# Altium footprint library TerminalBlock_Degson.PcbLib: 21 footprints (part 1 of 2)
Each footprint in its own frame and in the unit in brackets; x right, y up, seen from the top. Pads: shape width x height; smd on the part's side, far side on the other; paste and mask are expansions set on the pad; w line width, h text height; cw(c..) or ccw(c..) is an arc to the next point about the centre after c.
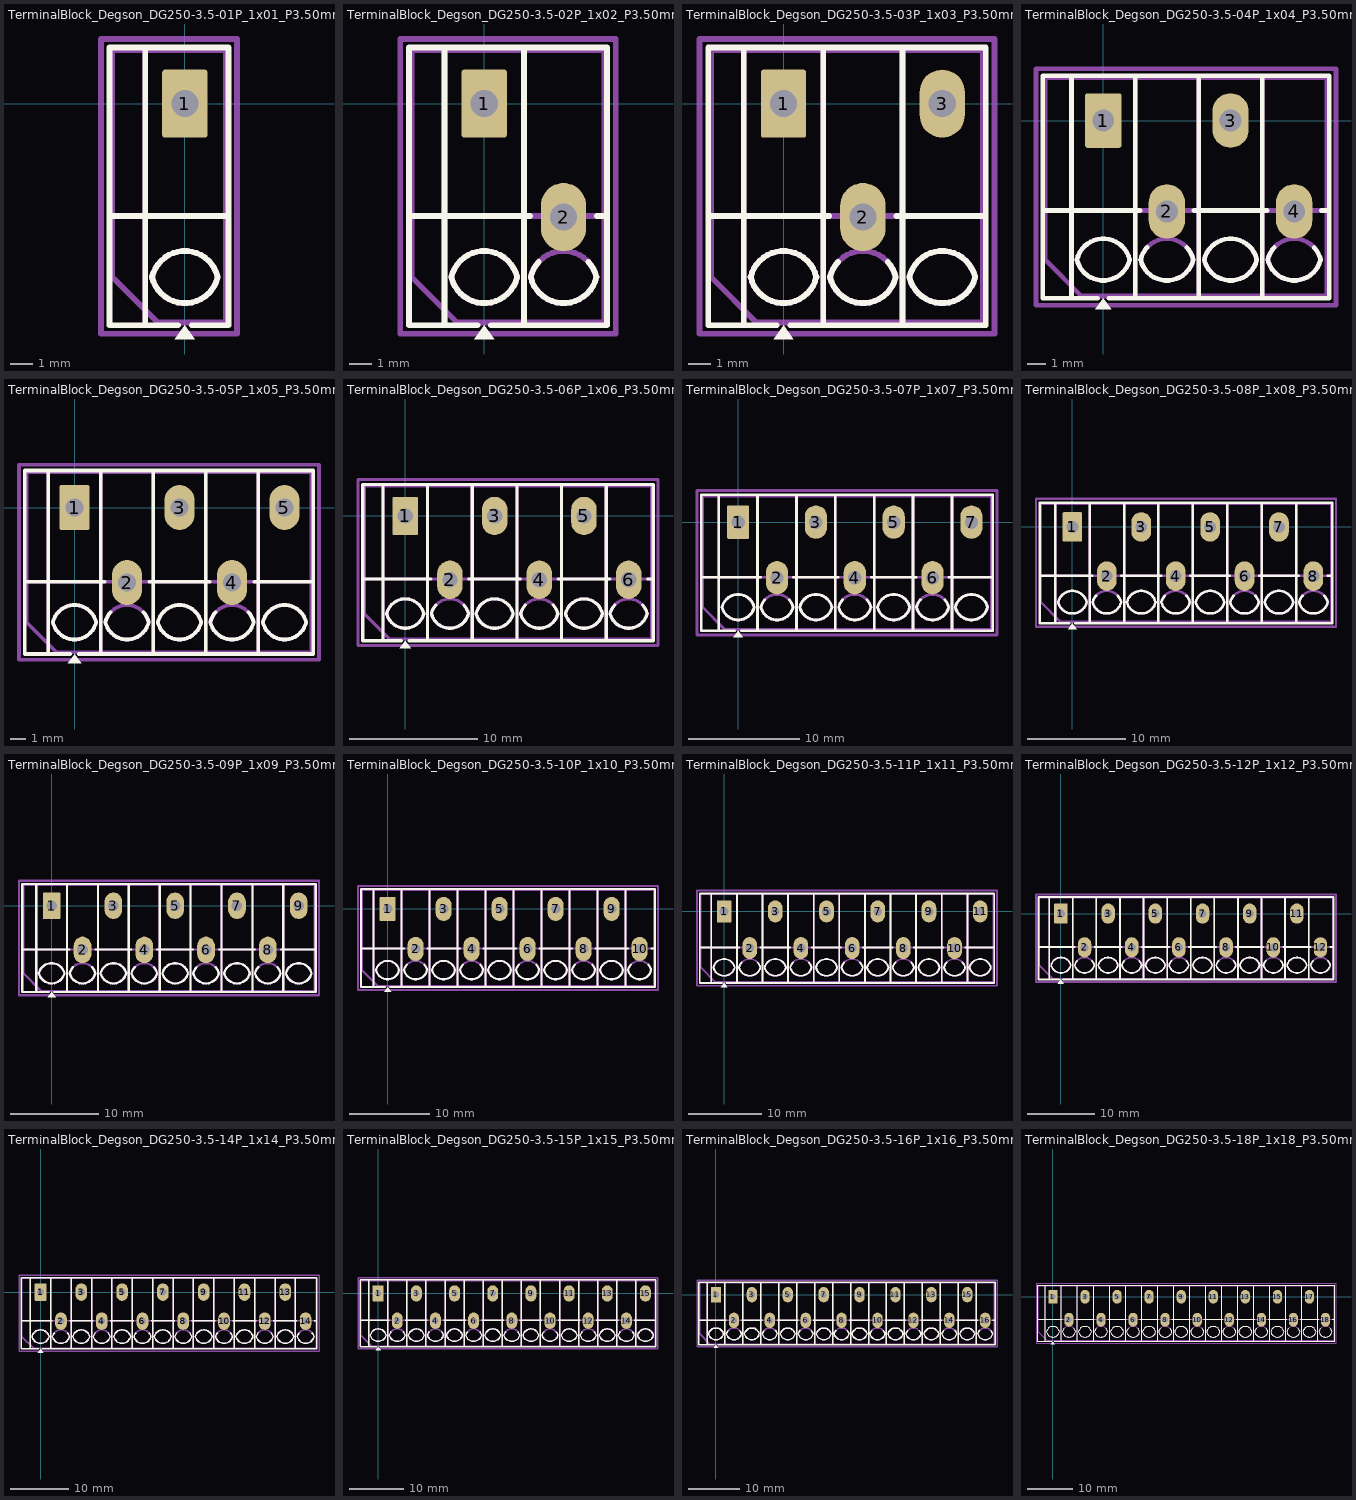
[diagram p0: the footprints below, top view; thin cyan lines are the x and y axes]

## TerminalBlock_Degson_DG250-3.5-01P_1x01_P3.50mm_45Degree [mm]
pads (1):
  rrect12% 2x3 hole 1.2: 1(0,0)
F.SilkS:
  region: 0.44,-10.38 -0.44,-10.38 0,-9.77
  lines w0.254: -3.32,-4.95 1.92,-4.95 ; -1.75,-9.77 -1.75,2.47 ; -0.3,-9.77 -3.32,-9.77 -3.32,2.47 1.92,2.47 1.92,-9.77 0.3,-9.77 ; -1.45,-7.65 cw(c0,-7.989) 1.45,-7.65 cw(c0,-7.311) -1.45,-7.65
F.Fab:
  lines w0.254: -3.2,-4.95 1.8,-4.95 ; -1.75,-9.65 -1.75,2.35 ; -3.2,-7.65 -3.2,2.35 1.8,2.35 1.8,-9.65 -1.2,-9.65 -3.2,-7.65 ; -1.45,-7.65 cw(c0,-7.989) 1.45,-7.65 cw(c0,-7.311) -1.45,-7.65
  text "'.Designator'" at -4.747,-3.49 h1
F.CrtYd:
  lines w0.254: -3.7,-10.15 -3.7,2.85 2.3,2.85 2.3,-10.15 -3.7,-10.15

## TerminalBlock_Degson_DG250-3.5-02P_1x02_P3.50mm_45Degree [mm]
pads (2):
  rrect12% 2x3 hole 1.2: 1(0,0)
  rrect100% 2x3 hole 1.2: 2(3.5,-5)
F.SilkS:
  region: 0.44,-10.38 -0.44,-10.38 0,-9.77
  lines w0.254: -3.32,-4.95 2.02,-4.95 ; -1.75,-9.77 -1.75,2.47 ; -0.3,-9.77 -3.32,-9.77 -3.32,2.47 5.42,2.47 5.42,-9.77 0.3,-9.77 ; 1.75,-9.77 1.75,2.47 ; 2.405,-6.98 ccw(c3.496,-7.987) 2.05,-7.65 ccw(c3.5,-7.311) 4.95,-7.65 ccw(c3.504,-7.987) 4.595,-6.98 ; 4.98,-4.95 5.42,-4.95 ; -1.45,-7.65 cw(c0,-7.989) 1.45,-7.65 cw(c0,-7.311) -1.45,-7.65
F.Fab:
  lines w0.254: -3.2,-4.95 5.3,-4.95 ; -1.75,-9.65 -1.75,2.35 ; 1.75,-9.65 1.75,2.35 ; -3.2,-7.65 -3.2,2.35 5.3,2.35 5.3,-9.65 -1.2,-9.65 -3.2,-7.65 ; -1.45,-7.65 cw(c0,-7.989) 1.45,-7.65 cw(c0,-7.311) -1.45,-7.65 ; 2.05,-7.65 cw(c3.5,-7.989) 4.95,-7.65 cw(c3.5,-7.311) 2.05,-7.65
  text "'.Designator'" at -2.997,-3.49 h1
F.CrtYd:
  lines w0.254: -3.7,-10.15 -3.7,2.85 5.8,2.85 5.8,-10.15 -3.7,-10.15

## TerminalBlock_Degson_DG250-3.5-03P_1x03_P3.50mm_45Degree [mm]
pads (3):
  rrect12% 2x3 hole 1.2: 1(0,0)
  rrect100% 2x3 hole 1.2: 2(3.5,-5) 3(7,0)
F.SilkS:
  region: 0.44,-10.38 -0.44,-10.38 0,-9.77
  lines w0.254: -3.32,-4.95 2.02,-4.95 ; -1.75,-9.77 -1.75,2.47 ; -0.3,-9.77 -3.32,-9.77 -3.32,2.47 8.92,2.47 8.92,-9.77 0.3,-9.77 ; 1.75,-9.77 1.75,2.47 ; 2.405,-6.98 ccw(c3.496,-7.987) 2.05,-7.65 ccw(c3.5,-7.311) 4.95,-7.65 ccw(c3.504,-7.987) 4.595,-6.98 ; 4.98,-4.95 8.92,-4.95 ; 5.25,-9.77 5.25,2.47 ; -1.45,-7.65 cw(c0,-7.989) 1.45,-7.65 cw(c0,-7.311) -1.45,-7.65 ; 5.55,-7.65 cw(c7,-7.989) 8.45,-7.65 cw(c7,-7.311) 5.55,-7.65
F.Fab:
  lines w0.254: -3.2,-4.95 8.8,-4.95 ; -1.75,-9.65 -1.75,2.35 ; 1.75,-9.65 1.75,2.35 ; 5.25,-9.65 5.25,2.35 ; -3.2,-7.65 -3.2,2.35 8.8,2.35 8.8,-9.65 -1.2,-9.65 -3.2,-7.65 ; -1.45,-7.65 cw(c0,-7.989) 1.45,-7.65 cw(c0,-7.311) -1.45,-7.65 ; 2.05,-7.65 cw(c3.5,-7.989) 4.95,-7.65 cw(c3.5,-7.311) 2.05,-7.65 ; 5.55,-7.65 cw(c7,-7.989) 8.45,-7.65 cw(c7,-7.311) 5.55,-7.65
  text "'.Designator'" at -1.247,-3.49 h1
F.CrtYd:
  lines w0.254: -3.7,-10.15 -3.7,2.85 9.3,2.85 9.3,-10.15 -3.7,-10.15

## TerminalBlock_Degson_DG250-3.5-04P_1x04_P3.50mm_45Degree [mm]
pads (4):
  rrect12% 2x3 hole 1.2: 1(0,0)
  rrect100% 2x3 hole 1.2: 2(3.5,-5) 3(7,0) 4(10.5,-5)
F.SilkS:
  region: 0.44,-10.38 -0.44,-10.38 0,-9.77
  lines w0.254: -3.32,-4.95 2.02,-4.95 ; -1.75,-9.77 -1.75,2.47 ; -0.3,-9.77 -3.32,-9.77 -3.32,2.47 12.42,2.47 12.42,-9.77 0.3,-9.77 ; 1.75,-9.77 1.75,2.47 ; 2.405,-6.98 ccw(c3.496,-7.987) 2.05,-7.65 ccw(c3.5,-7.311) 4.95,-7.65 ccw(c3.504,-7.987) 4.595,-6.98 ; 4.98,-4.95 9.02,-4.95 ; 5.25,-9.77 5.25,2.47 ; 8.75,-9.77 8.75,2.47 ; 9.405,-6.98 ccw(c10.496,-7.987) 9.05,-7.65 ccw(c10.5,-7.311) 11.95,-7.65 ccw(c10.504,-7.987) 11.595,-6.98 ; 11.98,-4.95 12.42,-4.95 ; -1.45,-7.65 cw(c0,-7.989) 1.45,-7.65 cw(c0,-7.311) -1.45,-7.65 ; 5.55,-7.65 cw(c7,-7.989) 8.45,-7.65 cw(c7,-7.311) 5.55,-7.65
F.Fab:
  lines w0.254: -3.2,-4.95 12.3,-4.95 ; -1.75,-9.65 -1.75,2.35 ; 1.75,-9.65 1.75,2.35 ; 5.25,-9.65 5.25,2.35 ; 8.75,-9.65 8.75,2.35 ; -3.2,-7.65 -3.2,2.35 12.3,2.35 12.3,-9.65 -1.2,-9.65 -3.2,-7.65 ; -1.45,-7.65 cw(c0,-7.989) 1.45,-7.65 cw(c0,-7.311) -1.45,-7.65 ; 2.05,-7.65 cw(c3.5,-7.989) 4.95,-7.65 cw(c3.5,-7.311) 2.05,-7.65 ; 5.55,-7.65 cw(c7,-7.989) 8.45,-7.65 cw(c7,-7.311) 5.55,-7.65 ; 9.05,-7.65 cw(c10.5,-7.989) 11.95,-7.65 cw(c10.5,-7.311) 9.05,-7.65
  text "'.Designator'" at 0.503,-3.49 h1
F.CrtYd:
  lines w0.254: -3.7,-10.15 -3.7,2.85 12.8,2.85 12.8,-10.15 -3.7,-10.15

## TerminalBlock_Degson_DG250-3.5-05P_1x05_P3.50mm_45Degree [mm]
pads (5):
  rrect12% 2x3 hole 1.2: 1(0,0)
  rrect100% 2x3 hole 1.2: 2(3.5,-5) 3(7,0) 4(10.5,-5) 5(14,0)
F.SilkS:
  region: 0.44,-10.38 -0.44,-10.38 0,-9.77
  lines w0.254: -3.32,-4.95 2.02,-4.95 ; -1.75,-9.77 -1.75,2.47 ; -0.3,-9.77 -3.32,-9.77 -3.32,2.47 15.92,2.47 15.92,-9.77 0.3,-9.77 ; 1.75,-9.77 1.75,2.47 ; 2.405,-6.98 ccw(c3.496,-7.987) 2.05,-7.65 ccw(c3.5,-7.311) 4.95,-7.65 ccw(c3.504,-7.987) 4.595,-6.98 ; 4.98,-4.95 9.02,-4.95 ; 5.25,-9.77 5.25,2.47 ; 8.75,-9.77 8.75,2.47 ; 9.405,-6.98 ccw(c10.496,-7.987) 9.05,-7.65 ccw(c10.5,-7.311) 11.95,-7.65 ccw(c10.504,-7.987) 11.595,-6.98 ; 11.98,-4.95 15.92,-4.95 ; 12.25,-9.77 12.25,2.47 ; -1.45,-7.65 cw(c0,-7.989) 1.45,-7.65 cw(c0,-7.311) -1.45,-7.65 ; 5.55,-7.65 cw(c7,-7.989) 8.45,-7.65 cw(c7,-7.311) 5.55,-7.65 ; 12.55,-7.65 cw(c14,-7.989) 15.45,-7.65 cw(c14,-7.311) 12.55,-7.65
F.Fab:
  lines w0.254: -3.2,-4.95 15.8,-4.95 ; -1.75,-9.65 -1.75,2.35 ; 1.75,-9.65 1.75,2.35 ; 5.25,-9.65 5.25,2.35 ; 8.75,-9.65 8.75,2.35 ; 12.25,-9.65 12.25,2.35 ; -3.2,-7.65 -3.2,2.35 15.8,2.35 15.8,-9.65 -1.2,-9.65 -3.2,-7.65 ; -1.45,-7.65 cw(c0,-7.989) 1.45,-7.65 cw(c0,-7.311) -1.45,-7.65 ; 2.05,-7.65 cw(c3.5,-7.989) 4.95,-7.65 cw(c3.5,-7.311) 2.05,-7.65 ; 5.55,-7.65 cw(c7,-7.989) 8.45,-7.65 cw(c7,-7.311) 5.55,-7.65 ; 9.05,-7.65 cw(c10.5,-7.989) 11.95,-7.65 cw(c10.5,-7.311) 9.05,-7.65 ; 12.55,-7.65 cw(c14,-7.989) 15.45,-7.65 cw(c14,-7.311) 12.55,-7.65
  text "'.Designator'" at 2.253,-3.49 h1
F.CrtYd:
  lines w0.254: -3.7,-10.15 -3.7,2.85 16.3,2.85 16.3,-10.15 -3.7,-10.15

## TerminalBlock_Degson_DG250-3.5-06P_1x06_P3.50mm_45Degree [mm]
pads (6):
  rrect12% 2x3 hole 1.2: 1(0,0)
  rrect100% 2x3 hole 1.2: 2(3.5,-5) 3(7,0) 4(10.5,-5) 5(14,0) 6(17.5,-5)
F.SilkS:
  region: 0.44,-10.38 -0.44,-10.38 0,-9.77
  lines w0.254: -3.32,-4.95 2.02,-4.95 ; -1.75,-9.77 -1.75,2.47 ; -0.3,-9.77 -3.32,-9.77 -3.32,2.47 19.42,2.47 19.42,-9.77 0.3,-9.77 ; 1.75,-9.77 1.75,2.47 ; 2.405,-6.98 ccw(c3.496,-7.987) 2.05,-7.65 ccw(c3.5,-7.311) 4.95,-7.65 ccw(c3.504,-7.987) 4.595,-6.98 ; 4.98,-4.95 9.02,-4.95 ; 5.25,-9.77 5.25,2.47 ; 8.75,-9.77 8.75,2.47 ; 9.405,-6.98 ccw(c10.496,-7.987) 9.05,-7.65 ccw(c10.5,-7.311) 11.95,-7.65 ccw(c10.504,-7.987) 11.595,-6.98 ; 11.98,-4.95 16.02,-4.95 ; 12.25,-9.77 12.25,2.47 ; 15.75,-9.77 15.75,2.47 ; 16.405,-6.98 ccw(c17.496,-7.987) 16.05,-7.65 ccw(c17.5,-7.311) 18.95,-7.65 ccw(c17.504,-7.987) 18.595,-6.98 ; 18.98,-4.95 19.42,-4.95 ; -1.45,-7.65 cw(c0,-7.989) 1.45,-7.65 cw(c0,-7.311) -1.45,-7.65 ; 5.55,-7.65 cw(c7,-7.989) 8.45,-7.65 cw(c7,-7.311) 5.55,-7.65 ; 12.55,-7.65 cw(c14,-7.989) 15.45,-7.65 cw(c14,-7.311) 12.55,-7.65
F.Fab:
  lines w0.254: -3.2,-4.95 19.3,-4.95 ; -1.75,-9.65 -1.75,2.35 ; 1.75,-9.65 1.75,2.35 ; 5.25,-9.65 5.25,2.35 ; 8.75,-9.65 8.75,2.35 ; 12.25,-9.65 12.25,2.35 ; 15.75,-9.65 15.75,2.35 ; -3.2,-7.65 -3.2,2.35 19.3,2.35 19.3,-9.65 -1.2,-9.65 -3.2,-7.65 ; -1.45,-7.65 cw(c0,-7.989) 1.45,-7.65 cw(c0,-7.311) -1.45,-7.65 ; 2.05,-7.65 cw(c3.5,-7.989) 4.95,-7.65 cw(c3.5,-7.311) 2.05,-7.65 ; 5.55,-7.65 cw(c7,-7.989) 8.45,-7.65 cw(c7,-7.311) 5.55,-7.65 ; 9.05,-7.65 cw(c10.5,-7.989) 11.95,-7.65 cw(c10.5,-7.311) 9.05,-7.65 ; 12.55,-7.65 cw(c14,-7.989) 15.45,-7.65 cw(c14,-7.311) 12.55,-7.65 ; 16.05,-7.65 cw(c17.5,-7.989) 18.95,-7.65 cw(c17.5,-7.311) 16.05,-7.65
  text "'.Designator'" at 4.003,-3.49 h1
F.CrtYd:
  lines w0.254: -3.7,-10.15 -3.7,2.85 19.8,2.85 19.8,-10.15 -3.7,-10.15

## TerminalBlock_Degson_DG250-3.5-07P_1x07_P3.50mm_45Degree [mm]
pads (7):
  rrect12% 2x3 hole 1.2: 1(0,0)
  rrect100% 2x3 hole 1.2: 2(3.5,-5) 3(7,0) 4(10.5,-5) 5(14,0) 6(17.5,-5) 7(21,0)
F.SilkS:
  region: 0.44,-10.38 -0.44,-10.38 0,-9.77
  lines w0.254: -3.32,-4.95 2.02,-4.95 ; -1.75,-9.77 -1.75,2.47 ; -0.3,-9.77 -3.32,-9.77 -3.32,2.47 22.92,2.47 22.92,-9.77 0.3,-9.77 ; 1.75,-9.77 1.75,2.47 ; 2.405,-6.98 ccw(c3.496,-7.987) 2.05,-7.65 ccw(c3.5,-7.311) 4.95,-7.65 ccw(c3.504,-7.987) 4.595,-6.98 ; 4.98,-4.95 9.02,-4.95 ; 5.25,-9.77 5.25,2.47 ; 8.75,-9.77 8.75,2.47 ; 9.405,-6.98 ccw(c10.496,-7.987) 9.05,-7.65 ccw(c10.5,-7.311) 11.95,-7.65 ccw(c10.504,-7.987) 11.595,-6.98 ; 11.98,-4.95 16.02,-4.95 ; 12.25,-9.77 12.25,2.47 ; 15.75,-9.77 15.75,2.47 ; 16.405,-6.98 ccw(c17.496,-7.987) 16.05,-7.65 ccw(c17.5,-7.311) 18.95,-7.65 ccw(c17.504,-7.987) 18.595,-6.98 ; 18.98,-4.95 22.92,-4.95 ; 19.25,-9.77 19.25,2.47 ; -1.45,-7.65 cw(c0,-7.989) 1.45,-7.65 cw(c0,-7.311) -1.45,-7.65 ; 5.55,-7.65 cw(c7,-7.989) 8.45,-7.65 cw(c7,-7.311) 5.55,-7.65 ; 12.55,-7.65 cw(c14,-7.989) 15.45,-7.65 cw(c14,-7.311) 12.55,-7.65 ; 19.55,-7.65 cw(c21,-7.989) 22.45,-7.65 cw(c21,-7.311) 19.55,-7.65
F.Fab:
  lines w0.254: -3.2,-4.95 22.8,-4.95 ; -1.75,-9.65 -1.75,2.35 ; 1.75,-9.65 1.75,2.35 ; 5.25,-9.65 5.25,2.35 ; 8.75,-9.65 8.75,2.35 ; 12.25,-9.65 12.25,2.35 ; 15.75,-9.65 15.75,2.35 ; 19.25,-9.65 19.25,2.35 ; -3.2,-7.65 -3.2,2.35 22.8,2.35 22.8,-9.65 -1.2,-9.65 -3.2,-7.65 ; -1.45,-7.65 cw(c0,-7.989) 1.45,-7.65 cw(c0,-7.311) -1.45,-7.65 ; 2.05,-7.65 cw(c3.5,-7.989) 4.95,-7.65 cw(c3.5,-7.311) 2.05,-7.65 ; 5.55,-7.65 cw(c7,-7.989) 8.45,-7.65 cw(c7,-7.311) 5.55,-7.65 ; 9.05,-7.65 cw(c10.5,-7.989) 11.95,-7.65 cw(c10.5,-7.311) 9.05,-7.65 ; 12.55,-7.65 cw(c14,-7.989) 15.45,-7.65 cw(c14,-7.311) 12.55,-7.65 ; 16.05,-7.65 cw(c17.5,-7.989) 18.95,-7.65 cw(c17.5,-7.311) 16.05,-7.65 ; 19.55,-7.65 cw(c21,-7.989) 22.45,-7.65 cw(c21,-7.311) 19.55,-7.65
  text "'.Designator'" at 5.753,-3.49 h1
F.CrtYd:
  lines w0.254: -3.7,-10.15 -3.7,2.85 23.3,2.85 23.3,-10.15 -3.7,-10.15

## TerminalBlock_Degson_DG250-3.5-08P_1x08_P3.50mm_45Degree [mm]
pads (8):
  rrect12% 2x3 hole 1.2: 1(0,0)
  rrect100% 2x3 hole 1.2: 2(3.5,-5) 3(7,0) 4(10.5,-5) 5(14,0) 6(17.5,-5) 7(21,0) 8(24.5,-5)
F.SilkS:
  region: 0.44,-10.38 -0.44,-10.38 0,-9.77
  lines w0.254: -3.32,-4.95 2.02,-4.95 ; -1.75,-9.77 -1.75,2.47 ; -0.3,-9.77 -3.32,-9.77 -3.32,2.47 26.42,2.47 26.42,-9.77 0.3,-9.77 ; 1.75,-9.77 1.75,2.47 ; 2.405,-6.98 ccw(c3.496,-7.987) 2.05,-7.65 ccw(c3.5,-7.311) 4.95,-7.65 ccw(c3.504,-7.987) 4.595,-6.98 ; 4.98,-4.95 9.02,-4.95 ; 5.25,-9.77 5.25,2.47 ; 8.75,-9.77 8.75,2.47 ; 9.405,-6.98 ccw(c10.496,-7.987) 9.05,-7.65 ccw(c10.5,-7.311) 11.95,-7.65 ccw(c10.504,-7.987) 11.595,-6.98 ; 11.98,-4.95 16.02,-4.95 ; 12.25,-9.77 12.25,2.47 ; 15.75,-9.77 15.75,2.47 ; 16.405,-6.98 ccw(c17.496,-7.987) 16.05,-7.65 ccw(c17.5,-7.311) 18.95,-7.65 ccw(c17.504,-7.987) 18.595,-6.98 ; 18.98,-4.95 23.02,-4.95 ; 19.25,-9.77 19.25,2.47 ; 22.75,-9.77 22.75,2.47 ; 23.405,-6.98 ccw(c24.496,-7.987) 23.05,-7.65 ccw(c24.5,-7.311) 25.95,-7.65 ccw(c24.504,-7.987) 25.595,-6.98 ; 25.98,-4.95 26.42,-4.95 ; -1.45,-7.65 cw(c0,-7.989) 1.45,-7.65 cw(c0,-7.311) -1.45,-7.65 ; 5.55,-7.65 cw(c7,-7.989) 8.45,-7.65 cw(c7,-7.311) 5.55,-7.65 ; 12.55,-7.65 cw(c14,-7.989) 15.45,-7.65 cw(c14,-7.311) 12.55,-7.65 ; 19.55,-7.65 cw(c21,-7.989) 22.45,-7.65 cw(c21,-7.311) 19.55,-7.65
F.Fab:
  lines w0.254: -3.2,-4.95 26.3,-4.95 ; -1.75,-9.65 -1.75,2.35 ; 1.75,-9.65 1.75,2.35 ; 5.25,-9.65 5.25,2.35 ; 8.75,-9.65 8.75,2.35 ; 12.25,-9.65 12.25,2.35 ; 15.75,-9.65 15.75,2.35 ; 19.25,-9.65 19.25,2.35 ; 22.75,-9.65 22.75,2.35 ; -3.2,-7.65 -3.2,2.35 26.3,2.35 26.3,-9.65 -1.2,-9.65 -3.2,-7.65 ; -1.45,-7.65 cw(c0,-7.989) 1.45,-7.65 cw(c0,-7.311) -1.45,-7.65 ; 2.05,-7.65 cw(c3.5,-7.989) 4.95,-7.65 cw(c3.5,-7.311) 2.05,-7.65 ; 5.55,-7.65 cw(c7,-7.989) 8.45,-7.65 cw(c7,-7.311) 5.55,-7.65 ; 9.05,-7.65 cw(c10.5,-7.989) 11.95,-7.65 cw(c10.5,-7.311) 9.05,-7.65 ; 12.55,-7.65 cw(c14,-7.989) 15.45,-7.65 cw(c14,-7.311) 12.55,-7.65 ; 16.05,-7.65 cw(c17.5,-7.989) 18.95,-7.65 cw(c17.5,-7.311) 16.05,-7.65 ; 19.55,-7.65 cw(c21,-7.989) 22.45,-7.65 cw(c21,-7.311) 19.55,-7.65 ; 23.05,-7.65 cw(c24.5,-7.989) 25.95,-7.65 cw(c24.5,-7.311) 23.05,-7.65
  text "'.Designator'" at 7.503,-3.49 h1
F.CrtYd:
  lines w0.254: -3.7,-10.15 -3.7,2.85 26.8,2.85 26.8,-10.15 -3.7,-10.15

## TerminalBlock_Degson_DG250-3.5-09P_1x09_P3.50mm_45Degree [mm]
pads (9):
  rrect12% 2x3 hole 1.2: 1(0,0)
  rrect100% 2x3 hole 1.2: 2(3.5,-5) 3(7,0) 4(10.5,-5) 5(14,0) 6(17.5,-5) 7(21,0) 8(24.5,-5) 9(28,0)
F.SilkS:
  region: 0.44,-10.38 -0.44,-10.38 0,-9.77
  lines w0.254: -3.32,-4.95 2.02,-4.95 ; -1.75,-9.77 -1.75,2.47 ; -0.3,-9.77 -3.32,-9.77 -3.32,2.47 29.92,2.47 29.92,-9.77 0.3,-9.77 ; 1.75,-9.77 1.75,2.47 ; 2.405,-6.98 ccw(c3.496,-7.987) 2.05,-7.65 ccw(c3.5,-7.311) 4.95,-7.65 ccw(c3.504,-7.987) 4.595,-6.98 ; 4.98,-4.95 9.02,-4.95 ; 5.25,-9.77 5.25,2.47 ; 8.75,-9.77 8.75,2.47 ; 9.405,-6.98 ccw(c10.496,-7.987) 9.05,-7.65 ccw(c10.5,-7.311) 11.95,-7.65 ccw(c10.504,-7.987) 11.595,-6.98 ; 11.98,-4.95 16.02,-4.95 ; 12.25,-9.77 12.25,2.47 ; 15.75,-9.77 15.75,2.47 ; 16.405,-6.98 ccw(c17.496,-7.987) 16.05,-7.65 ccw(c17.5,-7.311) 18.95,-7.65 ccw(c17.504,-7.987) 18.595,-6.98 ; 18.98,-4.95 23.02,-4.95 ; 19.25,-9.77 19.25,2.47 ; 22.75,-9.77 22.75,2.47 ; 23.405,-6.98 ccw(c24.496,-7.987) 23.05,-7.65 ccw(c24.5,-7.311) 25.95,-7.65 ccw(c24.504,-7.987) 25.595,-6.98 ; 25.98,-4.95 29.92,-4.95 ; 26.25,-9.77 26.25,2.47 ; -1.45,-7.65 cw(c0,-7.989) 1.45,-7.65 cw(c0,-7.311) -1.45,-7.65 ; 5.55,-7.65 cw(c7,-7.989) 8.45,-7.65 cw(c7,-7.311) 5.55,-7.65 ; 12.55,-7.65 cw(c14,-7.989) 15.45,-7.65 cw(c14,-7.311) 12.55,-7.65 ; 19.55,-7.65 cw(c21,-7.989) 22.45,-7.65 cw(c21,-7.311) 19.55,-7.65 ; 26.55,-7.65 cw(c28,-7.989) 29.45,-7.65 cw(c28,-7.311) 26.55,-7.65
F.Fab:
  lines w0.254: -3.2,-4.95 29.8,-4.95 ; -1.75,-9.65 -1.75,2.35 ; 1.75,-9.65 1.75,2.35 ; 5.25,-9.65 5.25,2.35 ; 8.75,-9.65 8.75,2.35 ; 12.25,-9.65 12.25,2.35 ; 15.75,-9.65 15.75,2.35 ; 19.25,-9.65 19.25,2.35 ; 22.75,-9.65 22.75,2.35 ; 26.25,-9.65 26.25,2.35 ; -3.2,-7.65 -3.2,2.35 29.8,2.35 29.8,-9.65 -1.2,-9.65 -3.2,-7.65 ; -1.45,-7.65 cw(c0,-7.989) 1.45,-7.65 cw(c0,-7.311) -1.45,-7.65 ; 2.05,-7.65 cw(c3.5,-7.989) 4.95,-7.65 cw(c3.5,-7.311) 2.05,-7.65 ; 5.55,-7.65 cw(c7,-7.989) 8.45,-7.65 cw(c7,-7.311) 5.55,-7.65 ; 9.05,-7.65 cw(c10.5,-7.989) 11.95,-7.65 cw(c10.5,-7.311) 9.05,-7.65 ; 12.55,-7.65 cw(c14,-7.989) 15.45,-7.65 cw(c14,-7.311) 12.55,-7.65 ; 16.05,-7.65 cw(c17.5,-7.989) 18.95,-7.65 cw(c17.5,-7.311) 16.05,-7.65 ; 19.55,-7.65 cw(c21,-7.989) 22.45,-7.65 cw(c21,-7.311) 19.55,-7.65 ; 23.05,-7.65 cw(c24.5,-7.989) 25.95,-7.65 cw(c24.5,-7.311) 23.05,-7.65 ; 26.55,-7.65 cw(c28,-7.989) 29.45,-7.65 cw(c28,-7.311) 26.55,-7.65
  text "'.Designator'" at 9.253,-3.49 h1
F.CrtYd:
  lines w0.254: -3.7,-10.15 -3.7,2.85 30.3,2.85 30.3,-10.15 -3.7,-10.15

## TerminalBlock_Degson_DG250-3.5-10P_1x10_P3.50mm_45Degree [mm]
pads (10):
  rrect12% 2x3 hole 1.2: 1(0,0)
  rrect100% 2x3 hole 1.2: 2(3.5,-5) 3(7,0) 4(10.5,-5) 5(14,0) 6(17.5,-5) 7(21,0) 8(24.5,-5) 9(28,0) 10(31.5,-5)
F.SilkS:
  region: 0.44,-10.38 -0.44,-10.38 0,-9.77
  lines w0.254: -3.32,-4.95 2.02,-4.95 ; -1.75,-9.77 -1.75,2.47 ; -0.3,-9.77 -3.32,-9.77 -3.32,2.47 33.42,2.47 33.42,-9.77 0.3,-9.77 ; 1.75,-9.77 1.75,2.47 ; 2.405,-6.98 ccw(c3.496,-7.987) 2.05,-7.65 ccw(c3.5,-7.311) 4.95,-7.65 ccw(c3.504,-7.987) 4.595,-6.98 ; 4.98,-4.95 9.02,-4.95 ; 5.25,-9.77 5.25,2.47 ; 8.75,-9.77 8.75,2.47 ; 9.405,-6.98 ccw(c10.496,-7.987) 9.05,-7.65 ccw(c10.5,-7.311) 11.95,-7.65 ccw(c10.504,-7.987) 11.595,-6.98 ; 11.98,-4.95 16.02,-4.95 ; 12.25,-9.77 12.25,2.47 ; 15.75,-9.77 15.75,2.47 ; 16.405,-6.98 ccw(c17.496,-7.987) 16.05,-7.65 ccw(c17.5,-7.311) 18.95,-7.65 ccw(c17.504,-7.987) 18.595,-6.98 ; 18.98,-4.95 23.02,-4.95 ; 19.25,-9.77 19.25,2.47 ; 22.75,-9.77 22.75,2.47 ; 23.405,-6.98 ccw(c24.496,-7.987) 23.05,-7.65 ccw(c24.5,-7.311) 25.95,-7.65 ccw(c24.504,-7.987) 25.595,-6.98 ; 25.98,-4.95 30.02,-4.95 ; 26.25,-9.77 26.25,2.47 ; 29.75,-9.77 29.75,2.47 ; 30.405,-6.98 ccw(c31.496,-7.987) 30.05,-7.65 ccw(c31.5,-7.311) 32.95,-7.65 ccw(c31.504,-7.987) 32.595,-6.98 ; 32.98,-4.95 33.42,-4.95 ; -1.45,-7.65 cw(c0,-7.989) 1.45,-7.65 cw(c0,-7.311) -1.45,-7.65 ; 5.55,-7.65 cw(c7,-7.989) 8.45,-7.65 cw(c7,-7.311) 5.55,-7.65 ; 12.55,-7.65 cw(c14,-7.989) 15.45,-7.65 cw(c14,-7.311) 12.55,-7.65 ; 19.55,-7.65 cw(c21,-7.989) 22.45,-7.65 cw(c21,-7.311) 19.55,-7.65 ; 26.55,-7.65 cw(c28,-7.989) 29.45,-7.65 cw(c28,-7.311) 26.55,-7.65
F.Fab:
  lines w0.254: -3.2,-4.95 33.3,-4.95 ; -1.75,-9.65 -1.75,2.35 ; 1.75,-9.65 1.75,2.35 ; 5.25,-9.65 5.25,2.35 ; 8.75,-9.65 8.75,2.35 ; 12.25,-9.65 12.25,2.35 ; 15.75,-9.65 15.75,2.35 ; 19.25,-9.65 19.25,2.35 ; 22.75,-9.65 22.75,2.35 ; 26.25,-9.65 26.25,2.35 ; 29.75,-9.65 29.75,2.35 ; -3.2,-7.65 -3.2,2.35 33.3,2.35 33.3,-9.65 -1.2,-9.65 -3.2,-7.65 ; -1.45,-7.65 cw(c0,-7.989) 1.45,-7.65 cw(c0,-7.311) -1.45,-7.65 ; 2.05,-7.65 cw(c3.5,-7.989) 4.95,-7.65 cw(c3.5,-7.311) 2.05,-7.65 ; 5.55,-7.65 cw(c7,-7.989) 8.45,-7.65 cw(c7,-7.311) 5.55,-7.65 ; 9.05,-7.65 cw(c10.5,-7.989) 11.95,-7.65 cw(c10.5,-7.311) 9.05,-7.65 ; 12.55,-7.65 cw(c14,-7.989) 15.45,-7.65 cw(c14,-7.311) 12.55,-7.65 ; 16.05,-7.65 cw(c17.5,-7.989) 18.95,-7.65 cw(c17.5,-7.311) 16.05,-7.65 ; 19.55,-7.65 cw(c21,-7.989) 22.45,-7.65 cw(c21,-7.311) 19.55,-7.65 ; 23.05,-7.65 cw(c24.5,-7.989) 25.95,-7.65 cw(c24.5,-7.311) 23.05,-7.65 ; 26.55,-7.65 cw(c28,-7.989) 29.45,-7.65 cw(c28,-7.311) 26.55,-7.65 ; 30.05,-7.65 cw(c31.5,-7.989) 32.95,-7.65 cw(c31.5,-7.311) 30.05,-7.65
  text "'.Designator'" at 11.003,-3.49 h1
F.CrtYd:
  lines w0.254: -3.7,-10.15 -3.7,2.85 33.8,2.85 33.8,-10.15 -3.7,-10.15

## TerminalBlock_Degson_DG250-3.5-11P_1x11_P3.50mm_45Degree [mm]
pads (11):
  rrect12% 2x3 hole 1.2: 1(0,0)
  rrect100% 2x3 hole 1.2: 2(3.5,-5) 3(7,0) 4(10.5,-5) 5(14,0) 6(17.5,-5) 7(21,0) 8(24.5,-5) 9(28,0) 10(31.5,-5) 11(35,0)
F.SilkS:
  region: 0.44,-10.38 -0.44,-10.38 0,-9.77
  lines w0.254: -3.32,-4.95 2.02,-4.95 ; -1.75,-9.77 -1.75,2.47 ; -0.3,-9.77 -3.32,-9.77 -3.32,2.47 36.92,2.47 36.92,-9.77 0.3,-9.77 ; 1.75,-9.77 1.75,2.47 ; 2.405,-6.98 ccw(c3.496,-7.987) 2.05,-7.65 ccw(c3.5,-7.311) 4.95,-7.65 ccw(c3.504,-7.987) 4.595,-6.98 ; 4.98,-4.95 9.02,-4.95 ; 5.25,-9.77 5.25,2.47 ; 8.75,-9.77 8.75,2.47 ; 9.405,-6.98 ccw(c10.496,-7.987) 9.05,-7.65 ccw(c10.5,-7.311) 11.95,-7.65 ccw(c10.504,-7.987) 11.595,-6.98 ; 11.98,-4.95 16.02,-4.95 ; 12.25,-9.77 12.25,2.47 ; 15.75,-9.77 15.75,2.47 ; 16.405,-6.98 ccw(c17.496,-7.987) 16.05,-7.65 ccw(c17.5,-7.311) 18.95,-7.65 ccw(c17.504,-7.987) 18.595,-6.98 ; 18.98,-4.95 23.02,-4.95 ; 19.25,-9.77 19.25,2.47 ; 22.75,-9.77 22.75,2.47 ; 23.405,-6.98 ccw(c24.496,-7.987) 23.05,-7.65 ccw(c24.5,-7.311) 25.95,-7.65 ccw(c24.504,-7.987) 25.595,-6.98 ; 25.98,-4.95 30.02,-4.95 ; 26.25,-9.77 26.25,2.47 ; 29.75,-9.77 29.75,2.47 ; 30.405,-6.98 ccw(c31.496,-7.987) 30.05,-7.65 ccw(c31.5,-7.311) 32.95,-7.65 ccw(c31.504,-7.987) 32.595,-6.98 ; 32.98,-4.95 36.92,-4.95 ; 33.25,-9.77 33.25,2.47 ; -1.45,-7.65 cw(c0,-7.989) 1.45,-7.65 cw(c0,-7.311) -1.45,-7.65 ; 5.55,-7.65 cw(c7,-7.989) 8.45,-7.65 cw(c7,-7.311) 5.55,-7.65 ; 12.55,-7.65 cw(c14,-7.989) 15.45,-7.65 cw(c14,-7.311) 12.55,-7.65 ; 19.55,-7.65 cw(c21,-7.989) 22.45,-7.65 cw(c21,-7.311) 19.55,-7.65 ; 26.55,-7.65 cw(c28,-7.989) 29.45,-7.65 cw(c28,-7.311) 26.55,-7.65 ; 33.55,-7.65 cw(c35,-7.989) 36.45,-7.65 cw(c35,-7.311) 33.55,-7.65
F.Fab:
  lines w0.254: -3.2,-4.95 36.8,-4.95 ; -1.75,-9.65 -1.75,2.35 ; 1.75,-9.65 1.75,2.35 ; 5.25,-9.65 5.25,2.35 ; 8.75,-9.65 8.75,2.35 ; 12.25,-9.65 12.25,2.35 ; 15.75,-9.65 15.75,2.35 ; 19.25,-9.65 19.25,2.35 ; 22.75,-9.65 22.75,2.35 ; 26.25,-9.65 26.25,2.35 ; 29.75,-9.65 29.75,2.35 ; 33.25,-9.65 33.25,2.35 ; -3.2,-7.65 -3.2,2.35 36.8,2.35 36.8,-9.65 -1.2,-9.65 -3.2,-7.65 ; -1.45,-7.65 cw(c0,-7.989) 1.45,-7.65 cw(c0,-7.311) -1.45,-7.65 ; 2.05,-7.65 cw(c3.5,-7.989) 4.95,-7.65 cw(c3.5,-7.311) 2.05,-7.65 ; 5.55,-7.65 cw(c7,-7.989) 8.45,-7.65 cw(c7,-7.311) 5.55,-7.65 ; 9.05,-7.65 cw(c10.5,-7.989) 11.95,-7.65 cw(c10.5,-7.311) 9.05,-7.65 ; 12.55,-7.65 cw(c14,-7.989) 15.45,-7.65 cw(c14,-7.311) 12.55,-7.65 ; 16.05,-7.65 cw(c17.5,-7.989) 18.95,-7.65 cw(c17.5,-7.311) 16.05,-7.65 ; 19.55,-7.65 cw(c21,-7.989) 22.45,-7.65 cw(c21,-7.311) 19.55,-7.65 ; 23.05,-7.65 cw(c24.5,-7.989) 25.95,-7.65 cw(c24.5,-7.311) 23.05,-7.65 ; 26.55,-7.65 cw(c28,-7.989) 29.45,-7.65 cw(c28,-7.311) 26.55,-7.65 ; 30.05,-7.65 cw(c31.5,-7.989) 32.95,-7.65 cw(c31.5,-7.311) 30.05,-7.65 ; 33.55,-7.65 cw(c35,-7.989) 36.45,-7.65 cw(c35,-7.311) 33.55,-7.65
  text "'.Designator'" at 12.753,-3.49 h1
F.CrtYd:
  lines w0.254: -3.7,-10.15 -3.7,2.85 37.3,2.85 37.3,-10.15 -3.7,-10.15

## TerminalBlock_Degson_DG250-3.5-12P_1x12_P3.50mm_45Degree [mm]
pads (12):
  rrect12% 2x3 hole 1.2: 1(0,0)
  rrect100% 2x3 hole 1.2: 2(3.5,-5) 3(7,0) 4(10.5,-5) 5(14,0) 6(17.5,-5) 7(21,0) 8(24.5,-5) 9(28,0) 10(31.5,-5) 11(35,0) 12(38.5,-5)
F.SilkS:
  region: 0.44,-10.38 -0.44,-10.38 0,-9.77
  lines w0.254: -3.32,-4.95 2.02,-4.95 ; -1.75,-9.77 -1.75,2.47 ; -0.3,-9.77 -3.32,-9.77 -3.32,2.47 40.42,2.47 40.42,-9.77 0.3,-9.77 ; 1.75,-9.77 1.75,2.47 ; 2.405,-6.98 ccw(c3.496,-7.987) 2.05,-7.65 ccw(c3.5,-7.311) 4.95,-7.65 ccw(c3.504,-7.987) 4.595,-6.98 ; 4.98,-4.95 9.02,-4.95 ; 5.25,-9.77 5.25,2.47 ; 8.75,-9.77 8.75,2.47 ; 9.405,-6.98 ccw(c10.496,-7.987) 9.05,-7.65 ccw(c10.5,-7.311) 11.95,-7.65 ccw(c10.504,-7.987) 11.595,-6.98 ; 11.98,-4.95 16.02,-4.95 ; 12.25,-9.77 12.25,2.47 ; 15.75,-9.77 15.75,2.47 ; 16.405,-6.98 ccw(c17.496,-7.987) 16.05,-7.65 ccw(c17.5,-7.311) 18.95,-7.65 ccw(c17.504,-7.987) 18.595,-6.98 ; 18.98,-4.95 23.02,-4.95 ; 19.25,-9.77 19.25,2.47 ; 22.75,-9.77 22.75,2.47 ; 23.405,-6.98 ccw(c24.496,-7.987) 23.05,-7.65 ccw(c24.5,-7.311) 25.95,-7.65 ccw(c24.504,-7.987) 25.595,-6.98 ; 25.98,-4.95 30.02,-4.95 ; 26.25,-9.77 26.25,2.47 ; 29.75,-9.77 29.75,2.47 ; 30.405,-6.98 ccw(c31.496,-7.987) 30.05,-7.65 ccw(c31.5,-7.311) 32.95,-7.65 ccw(c31.504,-7.987) 32.595,-6.98 ; 32.98,-4.95 37.02,-4.95 ; 33.25,-9.77 33.25,2.47 ; 36.75,-9.77 36.75,2.47 ; 37.405,-6.98 ccw(c38.496,-7.987) 37.05,-7.65 ccw(c38.5,-7.311) 39.95,-7.65 ccw(c38.504,-7.987) 39.595,-6.98 ; 39.98,-4.95 40.42,-4.95 ; -1.45,-7.65 cw(c0,-7.989) 1.45,-7.65 cw(c0,-7.311) -1.45,-7.65 ; 5.55,-7.65 cw(c7,-7.989) 8.45,-7.65 cw(c7,-7.311) 5.55,-7.65 ; 12.55,-7.65 cw(c14,-7.989) 15.45,-7.65 cw(c14,-7.311) 12.55,-7.65 ; 19.55,-7.65 cw(c21,-7.989) 22.45,-7.65 cw(c21,-7.311) 19.55,-7.65 ; 26.55,-7.65 cw(c28,-7.989) 29.45,-7.65 cw(c28,-7.311) 26.55,-7.65 ; 33.55,-7.65 cw(c35,-7.989) 36.45,-7.65 cw(c35,-7.311) 33.55,-7.65
F.Fab:
  lines w0.254: -3.2,-4.95 40.3,-4.95 ; -1.75,-9.65 -1.75,2.35 ; 1.75,-9.65 1.75,2.35 ; 5.25,-9.65 5.25,2.35 ; 8.75,-9.65 8.75,2.35 ; 12.25,-9.65 12.25,2.35 ; 15.75,-9.65 15.75,2.35 ; 19.25,-9.65 19.25,2.35 ; 22.75,-9.65 22.75,2.35 ; 26.25,-9.65 26.25,2.35 ; 29.75,-9.65 29.75,2.35 ; 33.25,-9.65 33.25,2.35 ; 36.75,-9.65 36.75,2.35 ; -3.2,-7.65 -3.2,2.35 40.3,2.35 40.3,-9.65 -1.2,-9.65 -3.2,-7.65 ; -1.45,-7.65 cw(c0,-7.989) 1.45,-7.65 cw(c0,-7.311) -1.45,-7.65 ; 2.05,-7.65 cw(c3.5,-7.989) 4.95,-7.65 cw(c3.5,-7.311) 2.05,-7.65 ; 5.55,-7.65 cw(c7,-7.989) 8.45,-7.65 cw(c7,-7.311) 5.55,-7.65 ; 9.05,-7.65 cw(c10.5,-7.989) 11.95,-7.65 cw(c10.5,-7.311) 9.05,-7.65 ; 12.55,-7.65 cw(c14,-7.989) 15.45,-7.65 cw(c14,-7.311) 12.55,-7.65 ; 16.05,-7.65 cw(c17.5,-7.989) 18.95,-7.65 cw(c17.5,-7.311) 16.05,-7.65 ; 19.55,-7.65 cw(c21,-7.989) 22.45,-7.65 cw(c21,-7.311) 19.55,-7.65 ; 23.05,-7.65 cw(c24.5,-7.989) 25.95,-7.65 cw(c24.5,-7.311) 23.05,-7.65 ; 26.55,-7.65 cw(c28,-7.989) 29.45,-7.65 cw(c28,-7.311) 26.55,-7.65 ; 30.05,-7.65 cw(c31.5,-7.989) 32.95,-7.65 cw(c31.5,-7.311) 30.05,-7.65 ; 33.55,-7.65 cw(c35,-7.989) 36.45,-7.65 cw(c35,-7.311) 33.55,-7.65 ; 37.05,-7.65 cw(c38.5,-7.989) 39.95,-7.65 cw(c38.5,-7.311) 37.05,-7.65
  text "'.Designator'" at 14.503,-3.49 h1
F.CrtYd:
  lines w0.254: -3.7,-10.15 -3.7,2.85 40.8,2.85 40.8,-10.15 -3.7,-10.15

## TerminalBlock_Degson_DG250-3.5-14P_1x14_P3.50mm_45Degree [mm]
pads (14):
  rrect12% 2x3 hole 1.2: 1(0,0)
  rrect100% 2x3 hole 1.2: 2(3.5,-5) 3(7,0) 4(10.5,-5) 5(14,0) 6(17.5,-5) 7(21,0) 8(24.5,-5) 9(28,0) 10(31.5,-5) 11(35,0) 12(38.5,-5) 13(42,0) 14(45.5,-5)
F.SilkS:
  region: 0.44,-10.38 -0.44,-10.38 0,-9.77
  lines w0.254: -3.32,-4.95 2.02,-4.95 ; -1.75,-9.77 -1.75,2.47 ; -0.3,-9.77 -3.32,-9.77 -3.32,2.47 47.42,2.47 47.42,-9.77 0.3,-9.77 ; 1.75,-9.77 1.75,2.47 ; 2.405,-6.98 ccw(c3.496,-7.987) 2.05,-7.65 ccw(c3.5,-7.311) 4.95,-7.65 ccw(c3.504,-7.987) 4.595,-6.98 ; 4.98,-4.95 9.02,-4.95 ; 5.25,-9.77 5.25,2.47 ; 8.75,-9.77 8.75,2.47 ; 9.405,-6.98 ccw(c10.496,-7.987) 9.05,-7.65 ccw(c10.5,-7.311) 11.95,-7.65 ccw(c10.504,-7.987) 11.595,-6.98 ; 11.98,-4.95 16.02,-4.95 ; 12.25,-9.77 12.25,2.47 ; 15.75,-9.77 15.75,2.47 ; 16.405,-6.98 ccw(c17.496,-7.987) 16.05,-7.65 ccw(c17.5,-7.311) 18.95,-7.65 ccw(c17.504,-7.987) 18.595,-6.98 ; 18.98,-4.95 23.02,-4.95 ; 19.25,-9.77 19.25,2.47 ; 22.75,-9.77 22.75,2.47 ; 23.405,-6.98 ccw(c24.496,-7.987) 23.05,-7.65 ccw(c24.5,-7.311) 25.95,-7.65 ccw(c24.504,-7.987) 25.595,-6.98 ; 25.98,-4.95 30.02,-4.95 ; 26.25,-9.77 26.25,2.47 ; 29.75,-9.77 29.75,2.47 ; 30.405,-6.98 ccw(c31.496,-7.987) 30.05,-7.65 ccw(c31.5,-7.311) 32.95,-7.65 ccw(c31.504,-7.987) 32.595,-6.98 ; 32.98,-4.95 37.02,-4.95 ; 33.25,-9.77 33.25,2.47 ; 36.75,-9.77 36.75,2.47 ; 37.405,-6.98 ccw(c38.496,-7.987) 37.05,-7.65 ccw(c38.5,-7.311) 39.95,-7.65 ccw(c38.504,-7.987) 39.595,-6.98 ; 39.98,-4.95 44.02,-4.95 ; 40.25,-9.77 40.25,2.47 ; 43.75,-9.77 43.75,2.47 ; 44.405,-6.98 ccw(c45.496,-7.987) 44.05,-7.65 ccw(c45.5,-7.311) 46.95,-7.65 ccw(c45.504,-7.987) 46.595,-6.98 ; 46.98,-4.95 47.42,-4.95 ; -1.45,-7.65 cw(c0,-7.989) 1.45,-7.65 cw(c0,-7.311) -1.45,-7.65 ; 5.55,-7.65 cw(c7,-7.989) 8.45,-7.65 cw(c7,-7.311) 5.55,-7.65 ; 12.55,-7.65 cw(c14,-7.989) 15.45,-7.65 cw(c14,-7.311) 12.55,-7.65 ; 19.55,-7.65 cw(c21,-7.989) 22.45,-7.65 cw(c21,-7.311) 19.55,-7.65 ; 26.55,-7.65 cw(c28,-7.989) 29.45,-7.65 cw(c28,-7.311) 26.55,-7.65 ; 33.55,-7.65 cw(c35,-7.989) 36.45,-7.65 cw(c35,-7.311) 33.55,-7.65 ; 40.55,-7.65 cw(c42,-7.989) 43.45,-7.65 cw(c42,-7.311) 40.55,-7.65
F.Fab:
  lines w0.254: -3.2,-4.95 47.3,-4.95 ; -1.75,-9.65 -1.75,2.35 ; 1.75,-9.65 1.75,2.35 ; 5.25,-9.65 5.25,2.35 ; 8.75,-9.65 8.75,2.35 ; 12.25,-9.65 12.25,2.35 ; 15.75,-9.65 15.75,2.35 ; 19.25,-9.65 19.25,2.35 ; 22.75,-9.65 22.75,2.35 ; 26.25,-9.65 26.25,2.35 ; 29.75,-9.65 29.75,2.35 ; 33.25,-9.65 33.25,2.35 ; 36.75,-9.65 36.75,2.35 ; 40.25,-9.65 40.25,2.35 ; 43.75,-9.65 43.75,2.35 ; -3.2,-7.65 -3.2,2.35 47.3,2.35 47.3,-9.65 -1.2,-9.65 -3.2,-7.65 ; -1.45,-7.65 cw(c0,-7.989) 1.45,-7.65 cw(c0,-7.311) -1.45,-7.65 ; 2.05,-7.65 cw(c3.5,-7.989) 4.95,-7.65 cw(c3.5,-7.311) 2.05,-7.65 ; 5.55,-7.65 cw(c7,-7.989) 8.45,-7.65 cw(c7,-7.311) 5.55,-7.65 ; 9.05,-7.65 cw(c10.5,-7.989) 11.95,-7.65 cw(c10.5,-7.311) 9.05,-7.65 ; 12.55,-7.65 cw(c14,-7.989) 15.45,-7.65 cw(c14,-7.311) 12.55,-7.65 ; 16.05,-7.65 cw(c17.5,-7.989) 18.95,-7.65 cw(c17.5,-7.311) 16.05,-7.65 ; 19.55,-7.65 cw(c21,-7.989) 22.45,-7.65 cw(c21,-7.311) 19.55,-7.65 ; 23.05,-7.65 cw(c24.5,-7.989) 25.95,-7.65 cw(c24.5,-7.311) 23.05,-7.65 ; 26.55,-7.65 cw(c28,-7.989) 29.45,-7.65 cw(c28,-7.311) 26.55,-7.65 ; 30.05,-7.65 cw(c31.5,-7.989) 32.95,-7.65 cw(c31.5,-7.311) 30.05,-7.65 ; 33.55,-7.65 cw(c35,-7.989) 36.45,-7.65 cw(c35,-7.311) 33.55,-7.65 ; 37.05,-7.65 cw(c38.5,-7.989) 39.95,-7.65 cw(c38.5,-7.311) 37.05,-7.65 ; 40.55,-7.65 cw(c42,-7.989) 43.45,-7.65 cw(c42,-7.311) 40.55,-7.65 ; 44.05,-7.65 cw(c45.5,-7.989) 46.95,-7.65 cw(c45.5,-7.311) 44.05,-7.65
  text "'.Designator'" at 18.003,-3.49 h1
F.CrtYd:
  lines w0.254: -3.7,-10.15 -3.7,2.85 47.8,2.85 47.8,-10.15 -3.7,-10.15

## TerminalBlock_Degson_DG250-3.5-15P_1x15_P3.50mm_45Degree [mm]
pads (15):
  rrect12% 2x3 hole 1.2: 1(0,0)
  rrect100% 2x3 hole 1.2: 2(3.5,-5) 3(7,0) 4(10.5,-5) 5(14,0) 6(17.5,-5) 7(21,0) 8(24.5,-5) 9(28,0) 10(31.5,-5) 11(35,0) 12(38.5,-5) 13(42,0) 14(45.5,-5) 15(49,0)
F.SilkS:
  region: 0.44,-10.38 -0.44,-10.38 0,-9.77
  lines w0.254: -3.32,-4.95 2.02,-4.95 ; -1.75,-9.77 -1.75,2.47 ; -0.3,-9.77 -3.32,-9.77 -3.32,2.47 50.92,2.47 50.92,-9.77 0.3,-9.77 ; 1.75,-9.77 1.75,2.47 ; 2.405,-6.98 ccw(c3.496,-7.987) 2.05,-7.65 ccw(c3.5,-7.311) 4.95,-7.65 ccw(c3.504,-7.987) 4.595,-6.98 ; 4.98,-4.95 9.02,-4.95 ; 5.25,-9.77 5.25,2.47 ; 8.75,-9.77 8.75,2.47 ; 9.405,-6.98 ccw(c10.496,-7.987) 9.05,-7.65 ccw(c10.5,-7.311) 11.95,-7.65 ccw(c10.504,-7.987) 11.595,-6.98 ; 11.98,-4.95 16.02,-4.95 ; 12.25,-9.77 12.25,2.47 ; 15.75,-9.77 15.75,2.47 ; 16.405,-6.98 ccw(c17.496,-7.987) 16.05,-7.65 ccw(c17.5,-7.311) 18.95,-7.65 ccw(c17.504,-7.987) 18.595,-6.98 ; 18.98,-4.95 23.02,-4.95 ; 19.25,-9.77 19.25,2.47 ; 22.75,-9.77 22.75,2.47 ; 23.405,-6.98 ccw(c24.496,-7.987) 23.05,-7.65 ccw(c24.5,-7.311) 25.95,-7.65 ccw(c24.504,-7.987) 25.595,-6.98 ; 25.98,-4.95 30.02,-4.95 ; 26.25,-9.77 26.25,2.47 ; 29.75,-9.77 29.75,2.47 ; 30.405,-6.98 ccw(c31.496,-7.987) 30.05,-7.65 ccw(c31.5,-7.311) 32.95,-7.65 ccw(c31.504,-7.987) 32.595,-6.98 ; 32.98,-4.95 37.02,-4.95 ; 33.25,-9.77 33.25,2.47 ; 36.75,-9.77 36.75,2.47 ; 37.405,-6.98 ccw(c38.496,-7.987) 37.05,-7.65 ccw(c38.5,-7.311) 39.95,-7.65 ccw(c38.504,-7.987) 39.595,-6.98 ; 39.98,-4.95 44.02,-4.95 ; 40.25,-9.77 40.25,2.47 ; 43.75,-9.77 43.75,2.47 ; 44.405,-6.98 ccw(c45.496,-7.987) 44.05,-7.65 ccw(c45.5,-7.311) 46.95,-7.65 ccw(c45.504,-7.987) 46.595,-6.98 ; 46.98,-4.95 50.92,-4.95 ; 47.25,-9.77 47.25,2.47 ; -1.45,-7.65 cw(c0,-7.989) 1.45,-7.65 cw(c0,-7.311) -1.45,-7.65 ; 5.55,-7.65 cw(c7,-7.989) 8.45,-7.65 cw(c7,-7.311) 5.55,-7.65 ; 12.55,-7.65 cw(c14,-7.989) 15.45,-7.65 cw(c14,-7.311) 12.55,-7.65 ; 19.55,-7.65 cw(c21,-7.989) 22.45,-7.65 cw(c21,-7.311) 19.55,-7.65 ; 26.55,-7.65 cw(c28,-7.989) 29.45,-7.65 cw(c28,-7.311) 26.55,-7.65 ; 33.55,-7.65 cw(c35,-7.989) 36.45,-7.65 cw(c35,-7.311) 33.55,-7.65 ; 40.55,-7.65 cw(c42,-7.989) 43.45,-7.65 cw(c42,-7.311) 40.55,-7.65 ; 47.55,-7.65 cw(c49,-7.989) 50.45,-7.65 cw(c49,-7.311) 47.55,-7.65
F.Fab:
  lines w0.254: -3.2,-4.95 50.8,-4.95 ; -1.75,-9.65 -1.75,2.35 ; 1.75,-9.65 1.75,2.35 ; 5.25,-9.65 5.25,2.35 ; 8.75,-9.65 8.75,2.35 ; 12.25,-9.65 12.25,2.35 ; 15.75,-9.65 15.75,2.35 ; 19.25,-9.65 19.25,2.35 ; 22.75,-9.65 22.75,2.35 ; 26.25,-9.65 26.25,2.35 ; 29.75,-9.65 29.75,2.35 ; 33.25,-9.65 33.25,2.35 ; 36.75,-9.65 36.75,2.35 ; 40.25,-9.65 40.25,2.35 ; 43.75,-9.65 43.75,2.35 ; 47.25,-9.65 47.25,2.35 ; -3.2,-7.65 -3.2,2.35 50.8,2.35 50.8,-9.65 -1.2,-9.65 -3.2,-7.65 ; -1.45,-7.65 cw(c0,-7.989) 1.45,-7.65 cw(c0,-7.311) -1.45,-7.65 ; 2.05,-7.65 cw(c3.5,-7.989) 4.95,-7.65 cw(c3.5,-7.311) 2.05,-7.65 ; 5.55,-7.65 cw(c7,-7.989) 8.45,-7.65 cw(c7,-7.311) 5.55,-7.65 ; 9.05,-7.65 cw(c10.5,-7.989) 11.95,-7.65 cw(c10.5,-7.311) 9.05,-7.65 ; 12.55,-7.65 cw(c14,-7.989) 15.45,-7.65 cw(c14,-7.311) 12.55,-7.65 ; 16.05,-7.65 cw(c17.5,-7.989) 18.95,-7.65 cw(c17.5,-7.311) 16.05,-7.65 ; 19.55,-7.65 cw(c21,-7.989) 22.45,-7.65 cw(c21,-7.311) 19.55,-7.65 ; 23.05,-7.65 cw(c24.5,-7.989) 25.95,-7.65 cw(c24.5,-7.311) 23.05,-7.65 ; 26.55,-7.65 cw(c28,-7.989) 29.45,-7.65 cw(c28,-7.311) 26.55,-7.65 ; 30.05,-7.65 cw(c31.5,-7.989) 32.95,-7.65 cw(c31.5,-7.311) 30.05,-7.65 ; 33.55,-7.65 cw(c35,-7.989) 36.45,-7.65 cw(c35,-7.311) 33.55,-7.65 ; 37.05,-7.65 cw(c38.5,-7.989) 39.95,-7.65 cw(c38.5,-7.311) 37.05,-7.65 ; 40.55,-7.65 cw(c42,-7.989) 43.45,-7.65 cw(c42,-7.311) 40.55,-7.65 ; 44.05,-7.65 cw(c45.5,-7.989) 46.95,-7.65 cw(c45.5,-7.311) 44.05,-7.65 ; 47.55,-7.65 cw(c49,-7.989) 50.45,-7.65 cw(c49,-7.311) 47.55,-7.65
  text "'.Designator'" at 19.753,-3.49 h1
F.CrtYd:
  lines w0.254: -3.7,-10.15 -3.7,2.85 51.3,2.85 51.3,-10.15 -3.7,-10.15

## TerminalBlock_Degson_DG250-3.5-16P_1x16_P3.50mm_45Degree [mm]
pads (16):
  rrect12% 2x3 hole 1.2: 1(0,0)
  rrect100% 2x3 hole 1.2: 2(3.5,-5) 3(7,0) 4(10.5,-5) 5(14,0) 6(17.5,-5) 7(21,0) 8(24.5,-5) 9(28,0) 10(31.5,-5) 11(35,0) 12(38.5,-5) 13(42,0) 14(45.5,-5) 15(49,0) 16(52.5,-5)
F.SilkS:
  region: 0.44,-10.38 -0.44,-10.38 0,-9.77
  lines w0.254: -3.32,-4.95 2.02,-4.95 ; -1.75,-9.77 -1.75,2.47 ; -0.3,-9.77 -3.32,-9.77 -3.32,2.47 54.42,2.47 54.42,-9.77 0.3,-9.77 ; 1.75,-9.77 1.75,2.47 ; 2.405,-6.98 ccw(c3.496,-7.987) 2.05,-7.65 ccw(c3.5,-7.311) 4.95,-7.65 ccw(c3.504,-7.987) 4.595,-6.98 ; 4.98,-4.95 9.02,-4.95 ; 5.25,-9.77 5.25,2.47 ; 8.75,-9.77 8.75,2.47 ; 9.405,-6.98 ccw(c10.496,-7.987) 9.05,-7.65 ccw(c10.5,-7.311) 11.95,-7.65 ccw(c10.504,-7.987) 11.595,-6.98 ; 11.98,-4.95 16.02,-4.95 ; 12.25,-9.77 12.25,2.47 ; 15.75,-9.77 15.75,2.47 ; 16.405,-6.98 ccw(c17.496,-7.987) 16.05,-7.65 ccw(c17.5,-7.311) 18.95,-7.65 ccw(c17.504,-7.987) 18.595,-6.98 ; 18.98,-4.95 23.02,-4.95 ; 19.25,-9.77 19.25,2.47 ; 22.75,-9.77 22.75,2.47 ; 23.405,-6.98 ccw(c24.496,-7.987) 23.05,-7.65 ccw(c24.5,-7.311) 25.95,-7.65 ccw(c24.504,-7.987) 25.595,-6.98 ; 25.98,-4.95 30.02,-4.95 ; 26.25,-9.77 26.25,2.47 ; 29.75,-9.77 29.75,2.47 ; 30.405,-6.98 ccw(c31.496,-7.987) 30.05,-7.65 ccw(c31.5,-7.311) 32.95,-7.65 ccw(c31.504,-7.987) 32.595,-6.98 ; 32.98,-4.95 37.02,-4.95 ; 33.25,-9.77 33.25,2.47 ; 36.75,-9.77 36.75,2.47 ; 37.405,-6.98 ccw(c38.496,-7.987) 37.05,-7.65 ccw(c38.5,-7.311) 39.95,-7.65 ccw(c38.504,-7.987) 39.595,-6.98 ; 39.98,-4.95 44.02,-4.95 ; 40.25,-9.77 40.25,2.47 ; 43.75,-9.77 43.75,2.47 ; 44.405,-6.98 ccw(c45.496,-7.987) 44.05,-7.65 ccw(c45.5,-7.311) 46.95,-7.65 ccw(c45.504,-7.987) 46.595,-6.98 ; 46.98,-4.95 51.02,-4.95 ; 47.25,-9.77 47.25,2.47 ; 50.75,-9.77 50.75,2.47 ; 51.405,-6.98 ccw(c52.496,-7.987) 51.05,-7.65 ccw(c52.5,-7.311) 53.95,-7.65 ccw(c52.504,-7.987) 53.595,-6.98 ; 53.98,-4.95 54.42,-4.95 ; -1.45,-7.65 cw(c0,-7.989) 1.45,-7.65 cw(c0,-7.311) -1.45,-7.65 ; 5.55,-7.65 cw(c7,-7.989) 8.45,-7.65 cw(c7,-7.311) 5.55,-7.65 ; 12.55,-7.65 cw(c14,-7.989) 15.45,-7.65 cw(c14,-7.311) 12.55,-7.65 ; 19.55,-7.65 cw(c21,-7.989) 22.45,-7.65 cw(c21,-7.311) 19.55,-7.65 ; 26.55,-7.65 cw(c28,-7.989) 29.45,-7.65 cw(c28,-7.311) 26.55,-7.65 ; 33.55,-7.65 cw(c35,-7.989) 36.45,-7.65 cw(c35,-7.311) 33.55,-7.65 ; 40.55,-7.65 cw(c42,-7.989) 43.45,-7.65 cw(c42,-7.311) 40.55,-7.65 ; 47.55,-7.65 cw(c49,-7.989) 50.45,-7.65 cw(c49,-7.311) 47.55,-7.65
F.Fab:
  lines w0.254: -3.2,-4.95 54.3,-4.95 ; -1.75,-9.65 -1.75,2.35 ; 1.75,-9.65 1.75,2.35 ; 5.25,-9.65 5.25,2.35 ; 8.75,-9.65 8.75,2.35 ; 12.25,-9.65 12.25,2.35 ; 15.75,-9.65 15.75,2.35 ; 19.25,-9.65 19.25,2.35 ; 22.75,-9.65 22.75,2.35 ; 26.25,-9.65 26.25,2.35 ; 29.75,-9.65 29.75,2.35 ; 33.25,-9.65 33.25,2.35 ; 36.75,-9.65 36.75,2.35 ; 40.25,-9.65 40.25,2.35 ; 43.75,-9.65 43.75,2.35 ; 47.25,-9.65 47.25,2.35 ; 50.75,-9.65 50.75,2.35 ; -3.2,-7.65 -3.2,2.35 54.3,2.35 54.3,-9.65 -1.2,-9.65 -3.2,-7.65 ; -1.45,-7.65 cw(c0,-7.989) 1.45,-7.65 cw(c0,-7.311) -1.45,-7.65 ; 2.05,-7.65 cw(c3.5,-7.989) 4.95,-7.65 cw(c3.5,-7.311) 2.05,-7.65 ; 5.55,-7.65 cw(c7,-7.989) 8.45,-7.65 cw(c7,-7.311) 5.55,-7.65 ; 9.05,-7.65 cw(c10.5,-7.989) 11.95,-7.65 cw(c10.5,-7.311) 9.05,-7.65 ; 12.55,-7.65 cw(c14,-7.989) 15.45,-7.65 cw(c14,-7.311) 12.55,-7.65 ; 16.05,-7.65 cw(c17.5,-7.989) 18.95,-7.65 cw(c17.5,-7.311) 16.05,-7.65 ; 19.55,-7.65 cw(c21,-7.989) 22.45,-7.65 cw(c21,-7.311) 19.55,-7.65 ; 23.05,-7.65 cw(c24.5,-7.989) 25.95,-7.65 cw(c24.5,-7.311) 23.05,-7.65 ; 26.55,-7.65 cw(c28,-7.989) 29.45,-7.65 cw(c28,-7.311) 26.55,-7.65 ; 30.05,-7.65 cw(c31.5,-7.989) 32.95,-7.65 cw(c31.5,-7.311) 30.05,-7.65 ; 33.55,-7.65 cw(c35,-7.989) 36.45,-7.65 cw(c35,-7.311) 33.55,-7.65 ; 37.05,-7.65 cw(c38.5,-7.989) 39.95,-7.65 cw(c38.5,-7.311) 37.05,-7.65 ; 40.55,-7.65 cw(c42,-7.989) 43.45,-7.65 cw(c42,-7.311) 40.55,-7.65 ; 44.05,-7.65 cw(c45.5,-7.989) 46.95,-7.65 cw(c45.5,-7.311) 44.05,-7.65 ; 47.55,-7.65 cw(c49,-7.989) 50.45,-7.65 cw(c49,-7.311) 47.55,-7.65 ; 51.05,-7.65 cw(c52.5,-7.989) 53.95,-7.65 cw(c52.5,-7.311) 51.05,-7.65
  text "'.Designator'" at 21.503,-3.49 h1
F.CrtYd:
  lines w0.254: -3.7,-10.15 -3.7,2.85 54.8,2.85 54.8,-10.15 -3.7,-10.15

## TerminalBlock_Degson_DG250-3.5-18P_1x18_P3.50mm_45Degree [mm]
pads (18):
  rrect12% 2x3 hole 1.2: 1(0,0)
  rrect100% 2x3 hole 1.2: 2(3.5,-5) 3(7,0) 4(10.5,-5) 5(14,0) 6(17.5,-5) 7(21,0) 8(24.5,-5) 9(28,0) 10(31.5,-5) 11(35,0) 12(38.5,-5) 13(42,0) 14(45.5,-5) 15(49,0) 16(52.5,-5) 17(56,0) 18(59.5,-5)
F.SilkS:
  region: 0.44,-10.38 -0.44,-10.38 0,-9.77
  lines w0.254: -3.32,-4.95 2.02,-4.95 ; -1.75,-9.77 -1.75,2.47 ; -0.3,-9.77 -3.32,-9.77 -3.32,2.47 61.42,2.47 61.42,-9.77 0.3,-9.77 ; 1.75,-9.77 1.75,2.47 ; 2.405,-6.98 ccw(c3.496,-7.987) 2.05,-7.65 ccw(c3.5,-7.311) 4.95,-7.65 ccw(c3.504,-7.987) 4.595,-6.98 ; 4.98,-4.95 9.02,-4.95 ; 5.25,-9.77 5.25,2.47 ; 8.75,-9.77 8.75,2.47 ; 9.405,-6.98 ccw(c10.496,-7.987) 9.05,-7.65 ccw(c10.5,-7.311) 11.95,-7.65 ccw(c10.504,-7.987) 11.595,-6.98 ; 11.98,-4.95 16.02,-4.95 ; 12.25,-9.77 12.25,2.47 ; 15.75,-9.77 15.75,2.47 ; 16.405,-6.98 ccw(c17.496,-7.987) 16.05,-7.65 ccw(c17.5,-7.311) 18.95,-7.65 ccw(c17.504,-7.987) 18.595,-6.98 ; 18.98,-4.95 23.02,-4.95 ; 19.25,-9.77 19.25,2.47 ; 22.75,-9.77 22.75,2.47 ; 23.405,-6.98 ccw(c24.496,-7.987) 23.05,-7.65 ccw(c24.5,-7.311) 25.95,-7.65 ccw(c24.504,-7.987) 25.595,-6.98 ; 25.98,-4.95 30.02,-4.95 ; 26.25,-9.77 26.25,2.47 ; 29.75,-9.77 29.75,2.47 ; 30.405,-6.98 ccw(c31.496,-7.987) 30.05,-7.65 ccw(c31.5,-7.311) 32.95,-7.65 ccw(c31.504,-7.987) 32.595,-6.98 ; 32.98,-4.95 37.02,-4.95 ; 33.25,-9.77 33.25,2.47 ; 36.75,-9.77 36.75,2.47 ; 37.405,-6.98 ccw(c38.496,-7.987) 37.05,-7.65 ccw(c38.5,-7.311) 39.95,-7.65 ccw(c38.504,-7.987) 39.595,-6.98 ; 39.98,-4.95 44.02,-4.95 ; 40.25,-9.77 40.25,2.47 ; 43.75,-9.77 43.75,2.47 ; 44.405,-6.98 ccw(c45.496,-7.987) 44.05,-7.65 ccw(c45.5,-7.311) 46.95,-7.65 ccw(c45.504,-7.987) 46.595,-6.98 ; 46.98,-4.95 51.02,-4.95 ; 47.25,-9.77 47.25,2.47 ; 50.75,-9.77 50.75,2.47 ; 51.405,-6.98 ccw(c52.496,-7.987) 51.05,-7.65 ccw(c52.5,-7.311) 53.95,-7.65 ccw(c52.504,-7.987) 53.595,-6.98 ; 53.98,-4.95 58.02,-4.95 ; 54.25,-9.77 54.25,2.47 ; 57.75,-9.77 57.75,2.47 ; 58.405,-6.98 ccw(c59.496,-7.987) 58.05,-7.65 ccw(c59.5,-7.311) 60.95,-7.65 ccw(c59.504,-7.987) 60.595,-6.98 ; 60.98,-4.95 61.42,-4.95 ; -1.45,-7.65 cw(c0,-7.989) 1.45,-7.65 cw(c0,-7.311) -1.45,-7.65 ; 5.55,-7.65 cw(c7,-7.989) 8.45,-7.65 cw(c7,-7.311) 5.55,-7.65 ; 12.55,-7.65 cw(c14,-7.989) 15.45,-7.65 cw(c14,-7.311) 12.55,-7.65 ; 19.55,-7.65 cw(c21,-7.989) 22.45,-7.65 cw(c21,-7.311) 19.55,-7.65 ; 26.55,-7.65 cw(c28,-7.989) 29.45,-7.65 cw(c28,-7.311) 26.55,-7.65 ; 33.55,-7.65 cw(c35,-7.989) 36.45,-7.65 cw(c35,-7.311) 33.55,-7.65 ; 40.55,-7.65 cw(c42,-7.989) 43.45,-7.65 cw(c42,-7.311) 40.55,-7.65 ; 47.55,-7.65 cw(c49,-7.989) 50.45,-7.65 cw(c49,-7.311) 47.55,-7.65 ; 54.55,-7.65 cw(c56,-7.989) 57.45,-7.65 cw(c56,-7.311) 54.55,-7.65
F.Fab:
  lines w0.254: -3.2,-4.95 61.3,-4.95 ; -1.75,-9.65 -1.75,2.35 ; 1.75,-9.65 1.75,2.35 ; 5.25,-9.65 5.25,2.35 ; 8.75,-9.65 8.75,2.35 ; 12.25,-9.65 12.25,2.35 ; 15.75,-9.65 15.75,2.35 ; 19.25,-9.65 19.25,2.35 ; 22.75,-9.65 22.75,2.35 ; 26.25,-9.65 26.25,2.35 ; 29.75,-9.65 29.75,2.35 ; 33.25,-9.65 33.25,2.35 ; 36.75,-9.65 36.75,2.35 ; 40.25,-9.65 40.25,2.35 ; 43.75,-9.65 43.75,2.35 ; 47.25,-9.65 47.25,2.35 ; 50.75,-9.65 50.75,2.35 ; 54.25,-9.65 54.25,2.35 ; 57.75,-9.65 57.75,2.35 ; -3.2,-7.65 -3.2,2.35 61.3,2.35 61.3,-9.65 -1.2,-9.65 -3.2,-7.65 ; -1.45,-7.65 cw(c0,-7.989) 1.45,-7.65 cw(c0,-7.311) -1.45,-7.65 ; 2.05,-7.65 cw(c3.5,-7.989) 4.95,-7.65 cw(c3.5,-7.311) 2.05,-7.65 ; 5.55,-7.65 cw(c7,-7.989) 8.45,-7.65 cw(c7,-7.311) 5.55,-7.65 ; 9.05,-7.65 cw(c10.5,-7.989) 11.95,-7.65 cw(c10.5,-7.311) 9.05,-7.65 ; 12.55,-7.65 cw(c14,-7.989) 15.45,-7.65 cw(c14,-7.311) 12.55,-7.65 ; 16.05,-7.65 cw(c17.5,-7.989) 18.95,-7.65 cw(c17.5,-7.311) 16.05,-7.65 ; 19.55,-7.65 cw(c21,-7.989) 22.45,-7.65 cw(c21,-7.311) 19.55,-7.65 ; 23.05,-7.65 cw(c24.5,-7.989) 25.95,-7.65 cw(c24.5,-7.311) 23.05,-7.65 ; 26.55,-7.65 cw(c28,-7.989) 29.45,-7.65 cw(c28,-7.311) 26.55,-7.65 ; 30.05,-7.65 cw(c31.5,-7.989) 32.95,-7.65 cw(c31.5,-7.311) 30.05,-7.65 ; 33.55,-7.65 cw(c35,-7.989) 36.45,-7.65 cw(c35,-7.311) 33.55,-7.65 ; 37.05,-7.65 cw(c38.5,-7.989) 39.95,-7.65 cw(c38.5,-7.311) 37.05,-7.65 ; 40.55,-7.65 cw(c42,-7.989) 43.45,-7.65 cw(c42,-7.311) 40.55,-7.65 ; 44.05,-7.65 cw(c45.5,-7.989) 46.95,-7.65 cw(c45.5,-7.311) 44.05,-7.65 ; 47.55,-7.65 cw(c49,-7.989) 50.45,-7.65 cw(c49,-7.311) 47.55,-7.65 ; 51.05,-7.65 cw(c52.5,-7.989) 53.95,-7.65 cw(c52.5,-7.311) 51.05,-7.65 ; 54.55,-7.65 cw(c56,-7.989) 57.45,-7.65 cw(c56,-7.311) 54.55,-7.65 ; 58.05,-7.65 cw(c59.5,-7.989) 60.95,-7.65 cw(c59.5,-7.311) 58.05,-7.65
  text "'.Designator'" at 25.003,-3.49 h1
F.CrtYd:
  lines w0.254: -3.7,-10.15 -3.7,2.85 61.8,2.85 61.8,-10.15 -3.7,-10.15